# EAGLE library part PSH04-10 (library #PaJa_konektory)
Konektory se zamkem - vidlice - 10pin, RM3,96mm
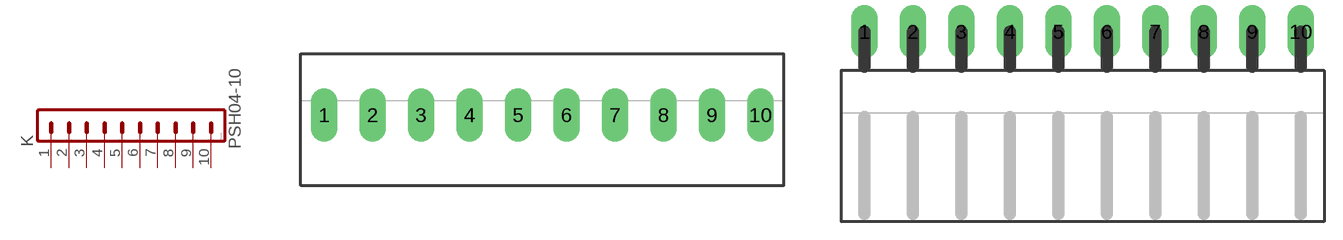
[diagram p18: symbol with the pads of PSH04-10P; footprints PSH04-10P, PSH04-10W]

Designator prefix K

## PSH04-10P  [PSH04-10P]
1  1  pas
2  2  pas
3  3  pas
4  4  pas
5  5  pas
6  6  pas
7  7  pas
8  8  pas
9  9  pas
10  10  pas

## PSH04-10W  [PSH04-10W]
Pads as for PSH04-10P

## Footprint PSH04-10P (pad centres in mm)
drill 1.2 pad 2.184 long: 1 -17.831,0; 2 -13.868,0; 3 -9.906,0; 4 -5.944,0; 5 -1.981,0; 6 1.981,0; 7 5.944,0; 8 9.906,0; 9 13.868,0; 10 17.831,0

## Footprint PSH04-10W (pad centres in mm)
drill 1.2 pad 2.184 long: 1 -17.831,0; 2 -13.868,0; 3 -9.906,0; 4 -5.944,0; 5 -1.981,0; 6 1.981,0; 7 5.944,0; 8 9.906,0; 9 13.868,0; 10 17.831,0